# Altium footprint library PcbLib1.PcbLib: 8 footprints
Each footprint in its own frame and in the unit in brackets; x right, y up, seen from the top. Pads: shape width x height; smd on the part's side, far side on the other; paste and mask are expansions set on the pad; w line width, h text height; cw(c..) or ccw(c..) is an arc to the next point about the centre after c.
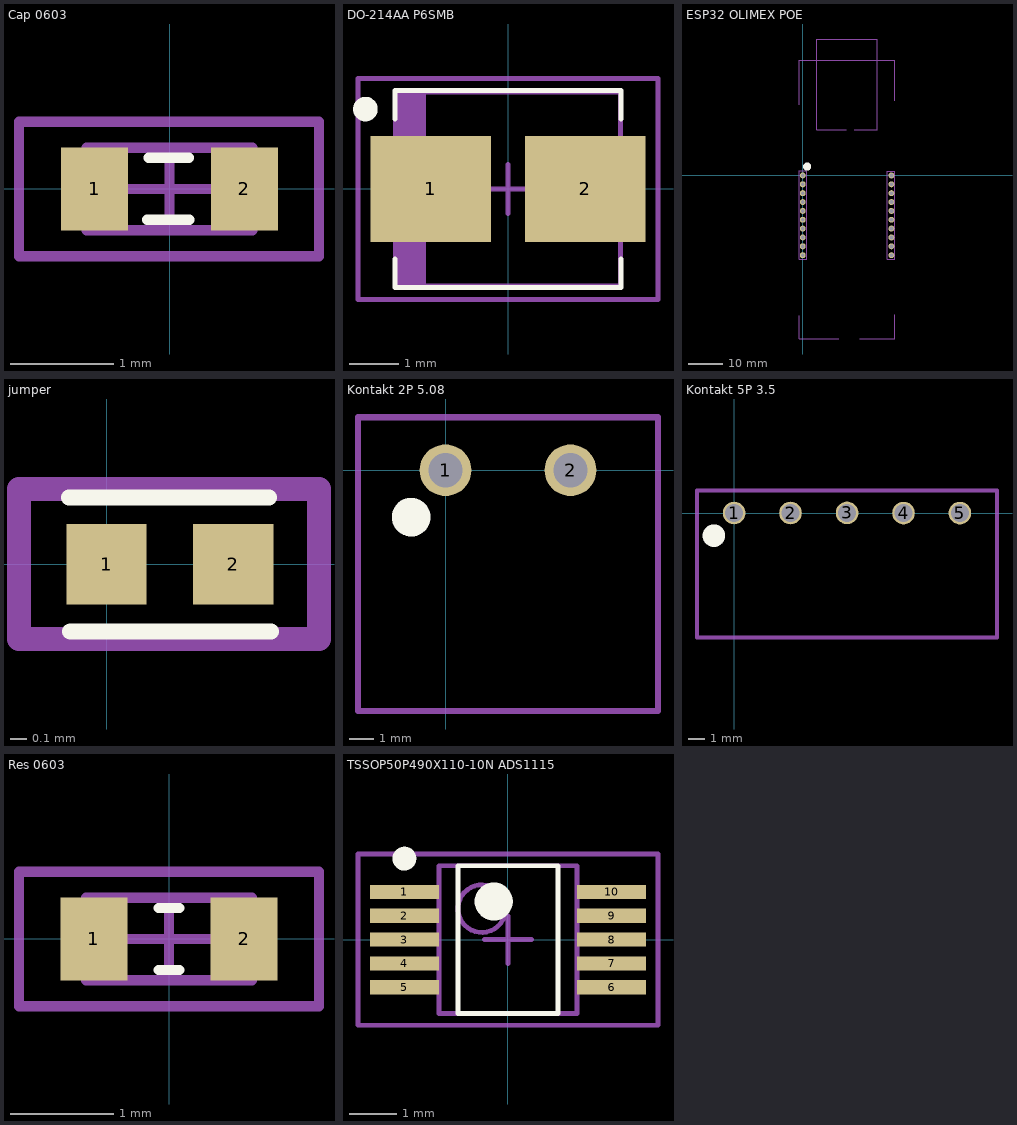
[diagram p0: the footprints below, top view; thin cyan lines are the x and y axes]

## Cap 0603 [mm]
height 0.45
pads (2):
  rect 0.65x0.8 smd: 1(-0.725,0) 2(0.725,0)
Top Overlay:
  lines w0.1: -0.218,-0.297 0.191,-0.299 ; -0.2,0.301 0.186,0.301
Mechanical 13:
  lines w0.1: -0.8,-0.4 0.8,-0.4 0.8,0.4 -0.8,0.4 -0.8,-0.4
Mechanical 15:
  lines w0.1: -0.4,0 0.4,0 ; 0,-0.4 0,0.4 ; -1.457,-0.65 1.447,-0.65 1.447,0.65 -1.457,0.65 -1.457,-0.65
3D body: height 0.45, standoff 0, extent 0.5,-0.4 0.8,0.4
3D body: height 0.45, standoff 0, extent -0.8,-0.4 -0.5,0.4
3D body: height 0.45, standoff 0, extent -0.5,-0.4 0.5,0.4

## DO-214AA P6SMB [mm] "Molded Diode, 2-Leads, Body 4,31x3,62mm, IPC Medium Density"
height 2.65
pads (2):
  rect 2.45x2.15 smd: 1(-1.575,0) 2(1.575,0)
Top Overlay:
  circle w0.25: c-2.9,1.625 r0.125
  lines w0.1: -2.3,-1.425 -2.3,-2 2.3,-2 2.3,-1.425 ; -2.3,1.425 -2.3,2 2.3,2 2.3,1.425
Mechanical 13:
  rectangle: -2.285,-1.97 -1.67,1.97
  lines w0.1: -2.285,-1.97 2.285,-1.97 2.285,1.97 -2.285,1.97 -2.285,-1.97
Mechanical 15:
  lines w0.1: -0.5,0 0.5,0 ; 0,-0.5 0,0.5 ; -3.05,-2.25 3.05,-2.25 3.05,2.25 -3.05,2.25 -3.05,-2.25
3D body "DO-214AA P6SMB.step": height 2.65, standoff 0, extent -2.505,-1.97 2.505,1.97

## ESP32 OLIMEX POE [mm]
pads (20):
  round 1.7 hole 1.1: 1(0,0) 2(0,-2.54) 3(0,-5.08) 4(0,-7.62) 5(0,-10.16) 6(0,-12.7) 7(0,-15.24) 8(0,-17.78) 9(0,-20.32) 10(0,-22.86) 11(25.4,-22.86) 12(25.4,-20.32) 13(25.4,-17.78) 14(25.4,-15.24) 15(25.4,-12.7) 16(25.4,-10.16) 17(25.4,-7.62) 18(25.4,-5.08) 19(25.4,-2.54) 20(25.4,0)
Top Overlay:
  circle w1.5: c1.27,2.54 r0.402
Mechanical 1:
  lines w0.254: -1.049,1.386 1.191,1.386 1.191,-24.02 -0.986,-24.02 ; -1.022,-23.984 -0.986,-24.02 ; -0.986,1.323 -0.986,-24.02 ; 26.343,1.149 24.245,1.149 24.245,-24.03 26.368,-24.03 26.368,1.124
Mechanical 15:
  lines w0.254: -1.024,-46.848 -1.024,-40.271 ; -1.02,-46.883 10.385,-46.883 ; -1.02,20.273 -1.02,32.998 ; -1.016,26.67 -1.016,33.02 26.416,33.02 ; 4.063,13.079 12.457,13.079 ; 4.064,13.081 4.064,38.862 4.064,39.116 21.336,39.116 21.336,13.081 ; 14.822,13.069 21.342,13.069 ; 16.398,-46.872 26.413,-46.872 ; 26.379,21.366 26.379,32.978 ; 26.385,-46.847 26.385,-39.96

## jumper [mm]
pads (2):
  rect 0.5x0.5 smd: 1(0,0) 2(0.789,0)
Top Overlay:
  lines w0.1: -0.234,0.417 1.011,0.417 ; -0.226,-0.418 1.025,-0.418
Mechanical 15:
  lines w0.15: -0.545,-0.464 -0.545,0.468 1.323,0.468 1.323,-0.464 -0.545,-0.464

## Kontakt 2P 5.08 [mm]
pads (2):
  round 2.1 hole 1.4: 1(0,0) 2(5.08,0)
Top Overlay:
  circle w1: c-1.397,-1.905 r0.284
Mechanical 15:
  lines w0.254: -3.556,-9.779 -3.556,2.159 8.636,2.159 8.636,-9.779 -3.556,-9.779
3D body: height 8.5, standoff 0, extent -3.429,-9.652 8.509,2.032

## Kontakt 5P 3.5 [mm]
pads (5):
  round 1.4 hole 1.1: 1(0,0) 2(3.497,0) 3(7.001,0.009) 4(10.501,-0.002) 5(13.996,-0.002)
Top Overlay:
  circle w1: c-1.251,-1.402 r0.195
Mechanical 15:
  lines w0.254: -2.299,-7.71 -2.299,1.391 16.294,1.391 16.294,-7.71 -2.299,-7.71
3D body: height 7, standoff 0, extent -2.299,-7.71 16.294,1.391

## Res 0603 [mm]
height 0.45
pads (2):
  rect 0.65x0.8 smd: 1(-0.725,0) 2(0.725,0)
Top Overlay:
  lines w0.1: -0.1,-0.3 0.1,-0.3 ; -0.1,0.3 0.1,0.3
Mechanical 13:
  lines w0.1: -0.8,-0.4 -0.8,0.4 0.8,0.4 0.8,-0.4 -0.8,-0.4
Mechanical 15:
  lines w0.1: -0.4,0 0.4,0 ; 0,-0.4 0,0.4 ; -1.45,-0.65 -1.45,0.65 1.45,0.65 1.45,-0.65 -1.45,-0.65
3D body "Resistor 0603.step": height 0.45, standoff 0, extent -0.8,-0.4 0.8,0.4

## TSSOP50P490X110-10N ADS1115 [mm] "TSSOP, 10-Leads, Body 3,00x3,00mm, Pitch 0,50mm, IPC Medium Density"
height 1.1
pads (10):
  rect 1.45x0.3 smd: 1(-2.175,1) 2(-2.175,0.5) 3(-2.175,0) 4(-2.175,-0.5) 5(-2.175,-1) 6(2.175,-1) 7(2.175,-0.5) 8(2.175,0) 9(2.175,0.5) 10(2.175,1)
Top Overlay:
  circle w0.4: c-0.3,0.8 r0.2
  circle w0.25: c-2.175,1.7 r0.125
  lines w0.1: -1.05,-1.55 1.05,-1.55 1.05,1.55 -1.05,1.55 -1.05,-1.55
Mechanical 13:
  circle w0.1: c-0.55,0.65 r0.5
  lines w0.1: -1.45,-1.55 1.45,-1.55 1.45,1.55 -1.45,1.55 -1.45,-1.55
Mechanical 15:
  lines w0.1: -0.5,0 0.5,0 ; 0,-0.5 0,0.5 ; -3.15,-1.8 3.15,-1.8 3.15,1.8 -3.15,1.8 -3.15,-1.8
3D body "TSSOP50P490X110-10N ADS1115.step": height 1.1, standoff 0, extent -2.45,-1.55 2.45,1.55